# EAGLE library part W25Q128JVEIM (library W25Q128JVEIM)
128M-bit Serial Flash Memory with uniform 4KB sectors and Dual/Quad SPI Source: Datasheet <https://www.winbond.com/hq/search-resource-file.jsp?partNo=W25Q128JVEIM&type=datasheet>
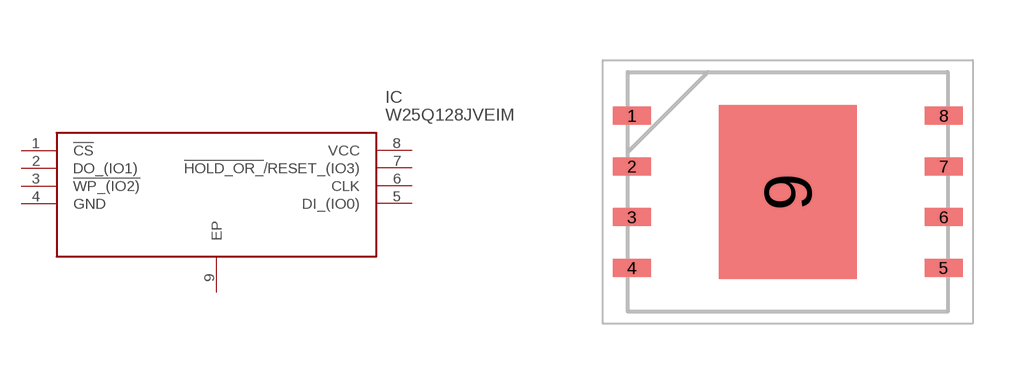
[diagram p0: symbol with the pads of SON127P800X600X80-9N; footprint SON127P800X600X80-9N]

Designator prefix IC

## W25Q128JVEIM (Arrow_Part_Number: W25Q128JVEIM; Arrow_Price-Stock: https://www.arrow.com/en/products/w25q128jveim/winbond-electronics.html?utm_currency=USD&region=asia; Description: 128M-bit Serial Flash Memory with uniform 4KB sectors and Dual/Quad SPI; Height: 0.8mm; Manufacturer_Name: Winbond; Manufacturer_Part_Number: W25Q128JVEIM; Mouser_Part_Number: 454-W25Q128JVEIM; Mouser_Price-Stock: https://www.mouser.co.uk/ProductDetail/Winbond/W25Q128JVEIM?qs=qSfuJ%252Bfl%2Fd6hdnQ7I94fFQ%3D%3D)  [SON127P800X600X80-9N]
1  !CS
2  DO_(IO1)
3  !WP_(IO2)
4  GND
5  DI_(IO0)
6  CLK
7  !HOLD_OR_!/RESET_(IO3)
8  VCC
9  EP

## Footprint SON127P800X600X80-9N (pad centres in mm)
8-Pad WSON 8x6
smd 0.95 x 0.45: 1 -3.9,1.905; 2 -3.9,0.635; 3 -3.9,-0.635; 4 -3.9,-1.905; 5 3.9,-1.905; 6 3.9,-0.635; 7 3.9,0.635; 8 3.9,1.905
smd 3.45 x 4.35: 9 0,0